# Altium schematic symbol library Opto-Isolator,Darlington Output,5kV,Thru.Schlib: 1 symbol
Pins are listed as number, name and electrical type; pins without a type are passive.

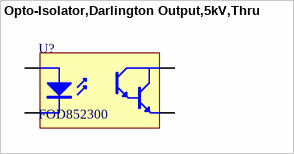
[diagram p0: symbol Opto-Isolator,Darlington Output,5kV,Thru]

## Opto-Isolator,Darlington Output,5kV,Thru
designator U?, comment FOD852300
Optoisolator Darlington Output 5000Vrms 1 Channel 4-DIP
pins: 1 A "Anode", 2 K "Cathode", 3 E "Emitter", 4 C "Collector"